# Altium footprint library 7.接插件封装.PcbLib: 201 footprints (part 6 of 13)
Each footprint in its own frame and in the unit in brackets; x right, y up, seen from the top. Pads: shape width x height; smd on the part's side, far side on the other; paste and mask are expansions set on the pad; w line width, h text height; cw(c..) or ccw(c..) is an arc to the next point about the centre after c.
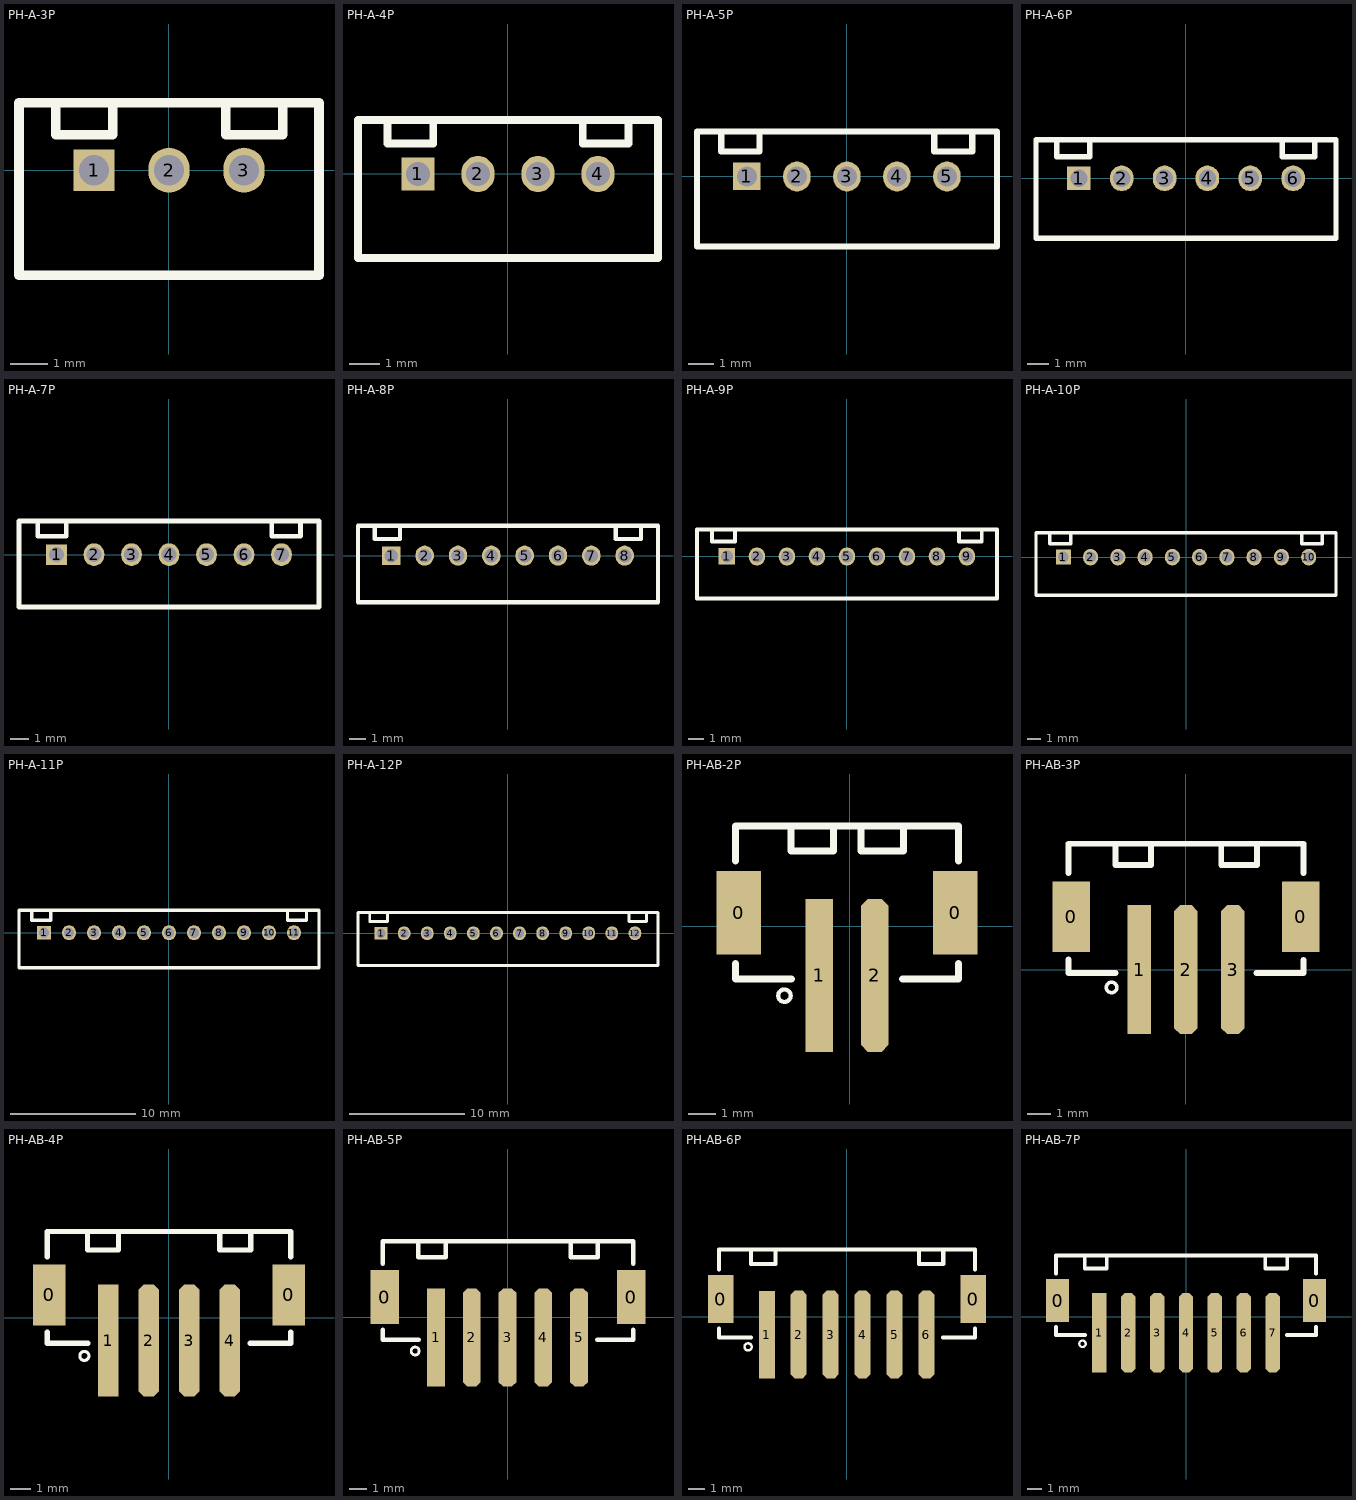
[diagram p5: the footprints below, top view; thin cyan lines are the x and y axes]

## PH-A-3P [mm]
height 6
pads (3):
  rect 1.1x1.1 hole 0.8: 1(-2,0)
  oval 1.1x1.2 hole 0.8: 2(0,0) 3(2,0)
Top Overlay:
  lines w0.254: -3.024,1.734 -3.024,0.95 -1.5,0.95 -1.5,1.734 ; 1.509,1.734 1.509,0.95 3.033,0.95 3.033,1.734 ; -4,-2.8 -4,1.8 4,1.8 4,-2.8 -4,-2.8

## PH-A-4P [mm]
height 6
pads (4):
  rect 1.1x1.1 hole 0.8: 1(-3,0)
  oval 1.1x1.2 hole 0.8: 2(-1,0) 3(1,0) 4(3,0)
Top Overlay:
  lines w0.254: -4.016,1.8 -4.016,1.016 -2.492,1.016 -2.492,1.8 ; 2.492,1.8 2.492,1.016 4.016,1.016 4.016,1.8 ; -5,-2.8 -5,1.8 5,1.8 5,-2.8 -5,-2.8

## PH-A-5P [mm]
height 6
pads (5):
  rect 1.1x1.1 hole 0.8: 1(-4,0)
  oval 1.1x1.2 hole 0.8: 2(-2,0) 3(0,0) 4(2,0) 5(4,0)
Top Overlay:
  lines w0.254: -5.024,1.784 -5.024,1 -3.5,1 -3.5,1.784 ; 3.484,1.784 3.484,1 5.008,1 5.008,1.784 ; -6,-2.8 -6,1.8 6,1.8 6,-2.8 -6,-2.8

## PH-A-6P [mm]
height 6
pads (6):
  rect 1.1x1.1 hole 0.8: 1(-5,0)
  oval 1.1x1.2 hole 0.8: 2(-3,0) 3(-1,0) 4(1,0) 5(3,0) 6(5,0)
Top Overlay:
  lines w0.254: -6.024,1.784 -6.024,1 -4.5,1 -4.5,1.784 ; 4.484,1.784 4.484,1 6.008,1 6.008,1.784 ; -7,-2.8 -7,1.8 7,1.8 7,-2.8 -7,-2.8

## PH-A-7P [mm]
height 6
pads (7):
  rect 1.1x1.1 hole 0.8: 1(-6,0)
  oval 1.1x1.2 hole 0.8: 2(-4,0) 3(-2,0) 4(0,0) 5(2,0) 6(4,0) 7(6,0)
Top Overlay:
  lines w0.254: -6.999,1.759 -6.999,0.975 -5.475,0.975 -5.475,1.759 ; 5.484,1.759 5.484,0.975 7.008,0.975 7.008,1.759 ; -8,-2.8 -8,1.8 8,1.8 8,-2.8 -8,-2.8

## PH-A-8P [mm]
height 6
pads (8):
  rect 1.1x1.1 hole 0.8: 1(-7,0)
  oval 1.1x1.2 hole 0.8: 2(-5,0) 3(-3,0) 4(-1,0) 5(1,0) 6(3,0) 7(5,0) 8(7,0)
Top Overlay:
  lines w0.254: -7.999,1.784 -7.999,1 -6.475,1 -6.475,1.784 ; 6.459,1.784 6.459,1 7.983,1 7.983,1.784 ; -9,-2.8 9,-2.8 9,1.8 -9,1.8 -9,-2.8

## PH-A-9P [mm]
height 6
pads (9):
  rect 1.1x1.1 hole 0.8: 1(-8,0)
  oval 1.1x1.2 hole 0.8: 2(-6,0) 3(-4,0) 4(-2,0) 5(0,0) 6(2,0) 7(4,0) 8(6,0) 9(8,0)
Top Overlay:
  lines w0.254: -8.999,1.784 -8.999,1 -7.475,1 -7.475,1.784 ; 7.459,1.784 7.459,1 8.983,1 8.983,1.784 ; -10,-2.8 -10,1.8 10,1.8 10,-2.8 -10,-2.8

## PH-A-10P [mm]
height 6
pads (10):
  rect 1.1x1.1 hole 0.8: 1(-9,0)
  oval 1.1x1.2 hole 0.8: 2(-7,0) 3(-5,0) 4(-3,0) 5(-1,0) 6(1,0) 7(3,0) 8(5,0) 9(7,0) 10(9,0)
Top Overlay:
  lines w0.254: -9.983,1.784 -9.983,1 -8.459,1 -8.459,1.784 ; 8.475,1.784 8.475,1 9.999,1 9.999,1.784 ; -11,-2.8 11,-2.8 11,1.8 -11,1.8 -11,-2.8

## PH-A-11P [mm]
height 6
pads (11):
  rect 1.1x1.1 hole 0.8: 1(-10,0)
  oval 1.1x1.2 hole 0.8: 2(-8,0) 3(-6,0) 4(-4,0) 5(-2,0) 6(0,0) 7(2,0) 8(4,0) 9(6,0) 10(8,0) 11(10,0)
Top Overlay:
  lines w0.254: -10.983,1.784 -10.983,1 -9.459,1 -9.459,1.784 ; 9.475,1.784 9.475,1 10.999,1 10.999,1.784 ; 12,-2.8 12,1.8 ; 12,-2.8 12,1.8 ; 12,-2.8 -12,-2.8 -12,1.8 12,1.8

## PH-A-12P [mm]
height 6
pads (12):
  rect 1.1x1.1 hole 0.8: 1(-11,0)
  oval 1.1x1.2 hole 0.8: 2(-9,0) 3(-7,0) 4(-5,0) 5(-3,0) 6(-1,0) 7(1,0) 8(3,0) 9(5,0) 10(7,0) 11(9,0) 12(11,0)
Top Overlay:
  lines w0.254: -11.983,1.784 -11.983,1 -10.459,1 -10.459,1.784 ; 10.475,1.784 10.475,1 11.999,1 11.999,1.784 ; -13,-2.8 13,-2.8 13,1.8 -13,1.8 -13,-2.8

## PH-AB-2P [mm]
height 6
pads (4):
  rect 1.6x3 smd: 0(-3.992,0.49) 0(3.788,0.49)
  rect 1x5.5 smd: 1(-1.102,-1.76)
  oct 1x5.5 smd: 2(0.898,-1.76)
Top Overlay:
  circle w0.15: c-2.348,-2.489 r0.224
  lines w0.254: -4.102,-1.335 -4.102,-1.894 -2.102,-1.894 ; -4.102,2.356 -4.102,3.606 3.898,3.606 3.898,2.356 ; -2.11,3.606 -2.11,2.706 -0.586,2.706 -0.586,3.606 ; 0.398,3.606 0.398,2.706 1.922,2.706 1.922,3.606 ; 1.898,-1.894 3.898,-1.894 3.898,-1.335

## PH-AB-3P [mm]
height 6
pads (5):
  rect 1.6x3 smd: 0(-4.89,2.25) 0(4.893,2.248)
  rect 1x5.5 smd: 1(-2,0)
  oct 1x5.5 smd: 2(0,0) 3(2,0)
Top Overlay:
  circle w0.15: c-3.17,-0.757 r0.224
  lines w0.254: -5,0.425 -5,-0.134 -3,-0.134 ; -5,4.116 -5,5.366 5.003,5.366 ; -3.008,5.366 -3.008,4.466 -1.484,4.466 -1.484,5.366 ; 1.503,5.364 1.503,4.464 3.027,4.464 3.027,5.364 ; 3.003,-0.136 5.003,-0.136 5.003,0.423 ; 5.003,4.114 5.003,5.364

## PH-AB-4P [mm]
height 6
pads (6):
  rect 1.6x3 smd: 0(-5.89,1.125) 0(5.89,1.125)
  rect 1x5.5 smd: 1(-3,-1.125)
  oct 1x5.5 smd: 2(-1,-1.125) 3(1,-1.125) 4(3,-1.125)
Top Overlay:
  circle w0.15: c-4.17,-1.882 r0.224
  lines w0.254: -6,-0.7 -6,-1.259 -4,-1.259 ; -6,2.991 -6,4.241 6,4.241 6,2.991 ; -4.008,4.241 -4.008,3.341 -2.484,3.341 -2.484,4.241 ; 2.5,4.241 2.5,3.341 4.024,3.341 4.024,4.241 ; 4,-1.259 6,-1.259 6,-0.7

## PH-AB-5P [mm]
height 6
pads (7):
  rect 1.6x3 smd: 0(-6.89,1.13) 0(6.89,1.13)
  rect 1x5.5 smd: 1(-4.025,-1.13)
  oct 1x5.5 smd: 2(-2.025,-1.13) 3(-0.025,-1.13) 4(1.975,-1.13) 5(3.975,-1.13)
Top Overlay:
  circle w0.15: c-5.195,-1.887 r0.224
  lines w0.254: -7,-0.695 -7,-1.254 -5,-1.254 ; -7,2.996 -7,4.247 7,4.247 7,2.996 ; -5.008,4.247 -5.008,3.347 -3.484,3.347 -3.484,4.247 ; 3.5,4.247 3.5,3.347 5.024,3.347 ; 5,-1.254 7,-1.254 7,-0.695 ; 5.025,3.347 5.025,4.247

## PH-AB-6P [mm]
height 6
pads (8):
  rect 1.6x3 smd: 0(-7.89,1.114) 0(7.89,1.114)
  rect 1x5.5 smd: 1(-5.022,-1.114)
  oct 1x5.5 smd: 2(-3.024,-1.106) 3(-1.024,-1.106) 4(0.976,-1.106) 5(2.976,-1.106) 6(4.976,-1.106)
Top Overlay:
  circle w0.15: c-6.192,-1.871 r0.224
  lines w0.254: -8,-0.711 -8,-1.27 -6,-1.27 ; -8,2.98 -8,4.239 8,4.239 8,2.98 ; -6.008,4.23 -6.008,3.33 -4.484,3.33 -4.484,4.23 ; 4.5,4.23 4.5,3.33 6.024,3.33 6.024,4.23 ; 6,-1.27 8,-1.27 8,-0.711

## PH-AB-7P [mm]
height 6
pads (9):
  rect 1.6x3 smd: 0(-8.89,1.118) 0(8.89,1.118)
  rect 1x5.5 smd: 1(-6,-1.118)
  oct 1x5.5 smd: 2(-4,-1.118) 3(-2,-1.118) 4(0,-1.118) 5(2,-1.118) 6(4,-1.118) 7(6,-1.118)
Top Overlay:
  circle w0.15: c-7.17,-1.874 r0.224
  lines w0.254: -9,-0.707 -9,-1.266 -7,-1.266 ; -9,2.984 -9,4.243 9,4.243 9,2.984 ; -7.008,4.234 -7.008,3.334 -5.484,3.334 -5.484,4.234 ; 5.5,4.234 5.5,3.334 7.024,3.334 7.024,4.243 ; 7,-1.266 9,-1.266 9,-0.707